# Altium schematic symbol library AP64501QSP-13.Schlib: 1 symbol
Pins are listed as number, name and electrical type; pins without a type are passive.

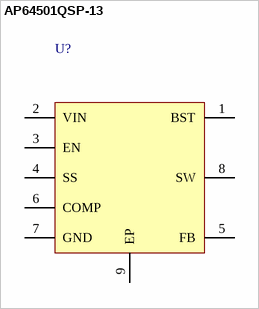
[diagram p0: symbol AP64501QSP-13]

## AP64501QSP-13
designator U?
SYNCHRONOUS Buck 40V, 5A Step-Down Switching Regulator
pins: 1 BST, 2 VIN (power), 3 EN, 4 SS, 5 FB, 6 COMP, 7 GND (power), 8 SW (power), 9 EP (power)